# Altium footprint library MOLEX_22-27-2031.PcbLib: 1 footprints
Each footprint in its own frame and in the unit in brackets; x right, y up, seen from the top. Pads: shape width x height; smd on the part's side, far side on the other; paste and mask are expansions set on the pad; w line width, h text height; cw(c..) or ccw(c..) is an arc to the next point about the centre after c.
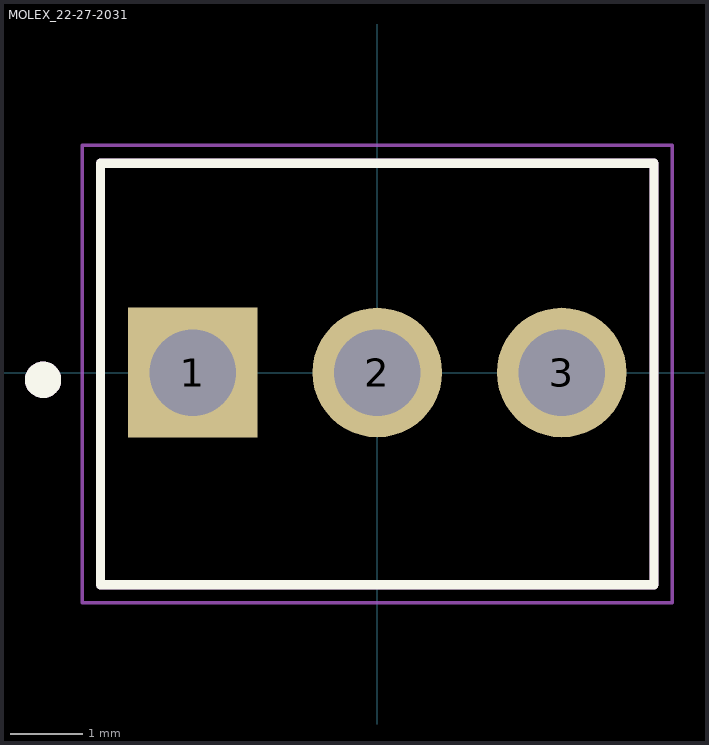
[diagram p0: the footprint, top view; thin cyan lines are the x and y axes]

## MOLEX_22-27-2031 [mm]
pads (3):
  rect 1.785x1.785 / inner round 1.785 / far side rect 1.785x1.785 hole 1.19: 1(-2.54,0)
  round 1.785 hole 1.19: 2(0,0) 3(2.54,0)
Top Overlay:
  circle w0.3: c-4.6,-0.1 r0.1
  lines w0.127: -3.81,-2.92 -3.81,2.88 3.81,2.88 3.81,-2.92 -3.81,-2.92
Mechanical 13:
  circle w0.3: c-4.6,-0.1 r0.1
  lines w0.127: -3.81,-2.92 3.81,-2.92 3.81,2.88 -3.81,2.88 -3.81,-2.92
Mechanical 15:
  lines w0.05: -4.06,-3.17 4.06,-3.17 4.06,3.13 -4.06,3.13 -4.06,-3.17